# Altium schematic symbol library SCH - LEVELTRANSLATOR - TCA9517DGKRQ1.SchLib: 1 symbol
Pins are listed as number, name and electrical type; pins without a type are passive.

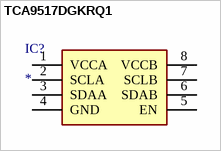
[diagram p0: symbol TCA9517DGKRQ1]

## TCA9517DGKRQ1
designator IC?
Integrated Circuit; Manufacturer_Name: Texas Instruments; Manufacturer_Part_Number: TCA9517DGKRQ1; Datasheet Link: http://www.ti.com/lit/gpn/tca9517-q1; Height: 1.1mm; Mouser2 Part Number: 595-TCA9517DGKRQ1; Mouser2 Price/Stock: https://www.mouser.com/Search/Refine.aspx?Keyword=595-TCA9517DGKRQ1
pins: 1 VCCA, 2 SCLA, 3 SDAA, 4 GND, 5 EN, 6 SDAB, 7 SCLB, 8 VCCB